# Altium integrated library OPTO.IntLib: 4 symbols
Pins are listed as number, name and electrical type; pins without a type are passive.

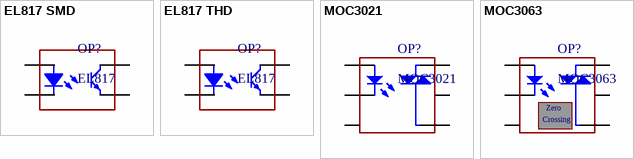
[diagram p0: symbols EL817 SMD to MOC3063]

## EL817 SMD
designator OP?, comment EL817
footprint DIP4_SMD (SOP, 4-Leads, Body 4.60x6.50mm, Pitch 2.54mm, IPC Medium Density)
pins: 1, 2, 3, 4

## EL817 THD
designator OP?, comment EL817
footprint DIP_4 (BRIDGE DIODE, DIP, pitch 2.54mm, 300mil Width)
pins: 1, 2, 3, 4

## MOC3021
designator OP?
footprint DIP_6 (DIP, pitch 2.54mm, 300mil Width)
pins: 1, 2, 3, 4, 5, 6

## MOC3063
designator OP?
footprint DIP_6 (DIP, pitch 2.54mm, 300mil Width)
pins: 1, 2, 3, 4, 5, 6
text: Zero; Crossing